# Altium schematic symbol library EMI_FILTER.SchLib: 1 symbol
Pins are listed as number, name and electrical type; pins without a type are passive.

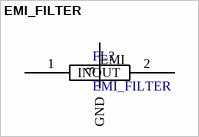
[diagram p0: symbol EMI_FILTER]

## EMI_FILTER
designator FL?
EMI filter symbol
pins: 1 IN, 2 OUT, 3 GND (power)
text: EMI